# Altium schematic symbol library chinook_lib_footprint_rotor.SchLib: 1 symbol
Pins are listed as number, name and electrical type; pins without a type are passive.

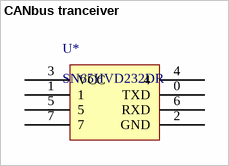
[diagram p0: symbol CANbus tranceiver]

## CANbus tranceiver
designator U*, comment SN65HVD232DR
ComponentLink1Description: New link; ComponentLink1URL: *
pins: 0 TXD, 1, 2 GND, 3 VCC, 4, 5, 6 RXD, 7